# EAGLE library part AD1892 (library analog-devices)
Integrated Digital Receiver/Rate Converter Auto generated by make-symbol-device-package-bsdl.ulp Rev. 33 Source: http://www.analog.com/static/imported-files/data_sheets/AD1892.pdf
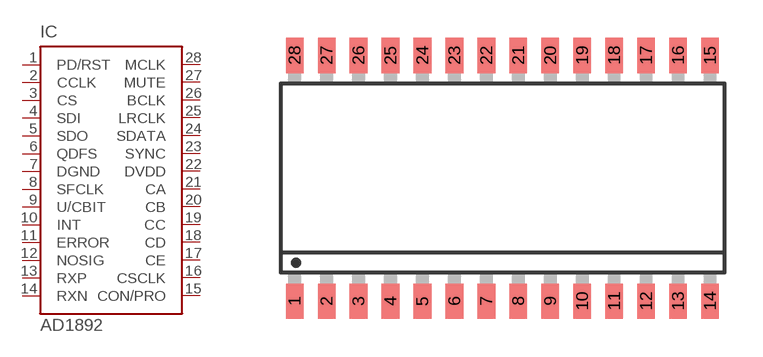
[diagram p78: symbol with the pads of SO-28R; footprint SO-28R]

Designator prefix IC

## AD1892 (OC_FARNELL: unknown; OC_NEWARK: unknown)  [SO-28R]
1  PD/RST  in
2  CCLK  in
3  CS  in
4  SDI  in
5  SDO  out
6  QDFS  out
7  DGND  pwr
8  SFCLK  out
9  U/CBIT  out
10  INT  out
11  ERROR  out
12  NOSIG  out
13  RXP  in
14  RXN  in
15  CON/PRO  out
16  CSCLK  out
17  CE  out
18  CD  out
19  CC  out
20  CB  out
21  CA  out
22  DVDD  pwr
23  SYNC  in
24  SDATA  out
25  LRCLK  out
26  BCLK  out
27  MUTE  in
28  MCLK  in

## Footprint SO-28R (pad centres in mm)
R-28 (S-Suffix) 28-Lead Wide-Body SO SOL-28 Source: http://www.analog.com/static/imported-files/data_sheets/AD1877.pdf
smd 0.7 x 1.4: 1 -8.255,-4.88; 2 -6.985,-4.88; 3 -5.715,-4.88; 4 -4.445,-4.88; 5 -3.175,-4.88; 6 -1.905,-4.88; 7 -0.635,-4.88; 8 0.635,-4.88; 9 1.905,-4.88; 10 3.175,-4.88; 11 4.445,-4.88; 12 5.715,-4.88; 13 6.985,-4.88; 14 8.255,-4.88; 15 8.255,4.88; 16 6.985,4.88; 17 5.715,4.88; 18 4.445,4.88; 19 3.175,4.88; 20 1.905,4.88; 21 0.635,4.88; 22 -0.635,4.88; 23 -1.905,4.88; 24 -3.175,4.88; 25 -4.445,4.88; 26 -5.715,4.88; 27 -6.985,4.88; 28 -8.255,4.88